# Altium footprint library OS103011MS8QP1.PcbLib: 1 footprints
Each footprint in its own frame and in the unit in brackets; x right, y up, seen from the top. Pads: shape width x height; smd on the part's side, far side on the other; paste and mask are expansions set on the pad; w line width, h text height; cw(c..) or ccw(c..) is an arc to the next point about the centre after c.
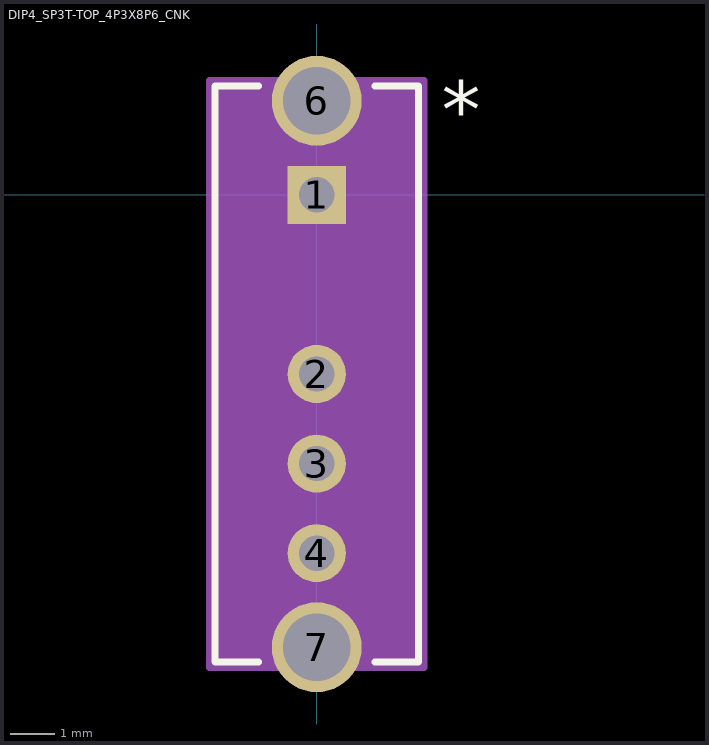
[diagram p0: the footprint, top view; thin cyan lines are the x and y axes]

## DIP4_SP3T-TOP_4P3X8P6_CNK [mil]
pads (6):
  rect 51x51 / inner round 60 / far side rect 51x51 hole 31 paste-99999 mask+0: 1(0,0)
  round 51 / inner round 60 / far side round 51 hole 31 paste-99999 mask+0: 2(0,-157.48) 3(0,-236.22) 4(0,-314.96)
  round 79 / inner round 60 / far side round 79 hole 59 paste-99999 mask-39.5: 6(0,82.68) 7(0,-397.64)
Top Overlay:
  lines w6: -51.01,-410.48 -89.5,-410.48 -89.5,95.52 -51.01,95.52 ; 51.01,-410.48 89.5,-410.48 89.5,95.52 51.01,95.52
  text "*" at 110,50 h50
Mechanical 13:
  region: 39.5,-277.48 -39.5,-277.48 -39.5,-157.48 39.5,-157.48
  lines w1: -84.5,-405.48 84.5,-405.48 84.5,90.52 -84.5,90.52 -84.5,-405.48 ; -39.5,-277.48 -39.5,-37.48 39.5,-37.48 39.5,-277.48 -39.5,-277.48
  text "*" at -82,-25 h50
Mechanical 15:
  region: 94.5,-415.48 -94.5,-415.48 -94.5,100.52 94.5,100.52
  lines w6: -94.5,-415.48 94.5,-415.48 94.5,100.52 -94.5,100.52 -94.5,-415.48
3D body "OS103011MS8QP1.stp": height 343.23, standoff -148.83, extent -84.65,-405.51 84.65,90.55